# Altium footprint library PCB - DIODES - TI SOT-3 DRT.PcbLib: 1 footprints
Each footprint in its own frame and in the unit in brackets; x right, y up, seen from the top. Pads: shape width x height; smd on the part's side, far side on the other; paste and mask are expansions set on the pad; w line width, h text height; cw(c..) or ccw(c..) is an arc to the next point about the centre after c.
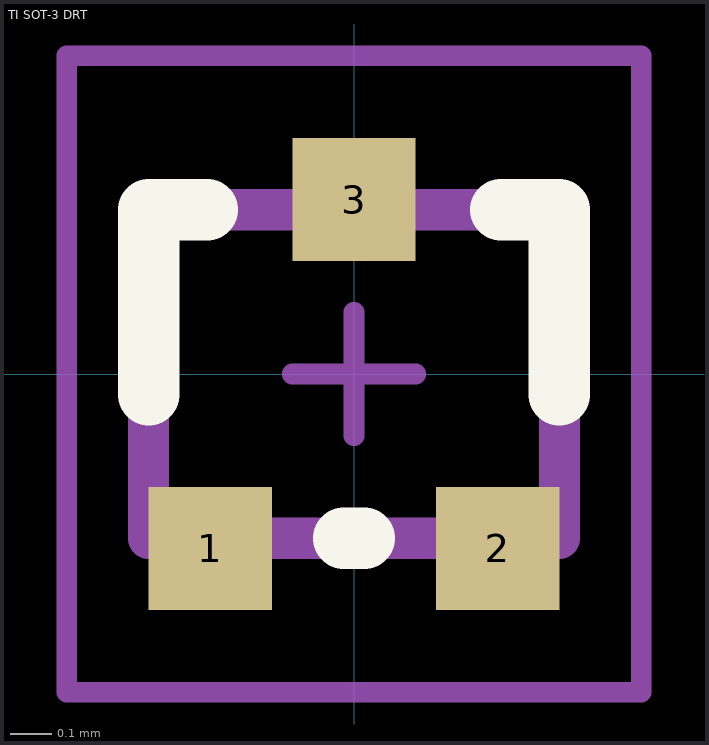
[diagram p0: the footprint, top view; thin cyan lines are the x and y axes]

## TI SOT-3 DRT [mm] "Diode, 3-Leads, Body 1 x 0.8mm,"
height 0.5
pads (3):
  rect 0.3x0.3 smd mask+0.07: 1(-0.35,-0.425) 2(0.35,-0.425) 3(0,0.425)
Top Overlay:
  lines w0.15: -0.5,-0.05 -0.5,0.4 -0.358,0.4 ; -0.025,-0.4 0.025,-0.4 ; 0.358,0.4 0.5,0.4 0.5,-0.05
Mechanical 13:
  lines w0.1: -0.5,-0.4 -0.5,0.4 0.5,0.4 0.5,-0.4 -0.5,-0.4
Mechanical 15:
  lines w0.05: -0.7,-0.775 -0.7,0.775 0.7,0.775 0.7,-0.775 -0.7,-0.775
Mechanical 2 (Mech9):
  lines w0.05: -0.15,0 0.15,0 ; 0,-0.15 0,0.15
3D body "TI - SOT3 - DRT.step": height 0.5, standoff 0, extent -0.499,-0.5 0.498,0.5